# Altium schematic symbol library transistor.SchLib: 15 symbols
Pins are listed as number, name and electrical type; pins without a type are passive.

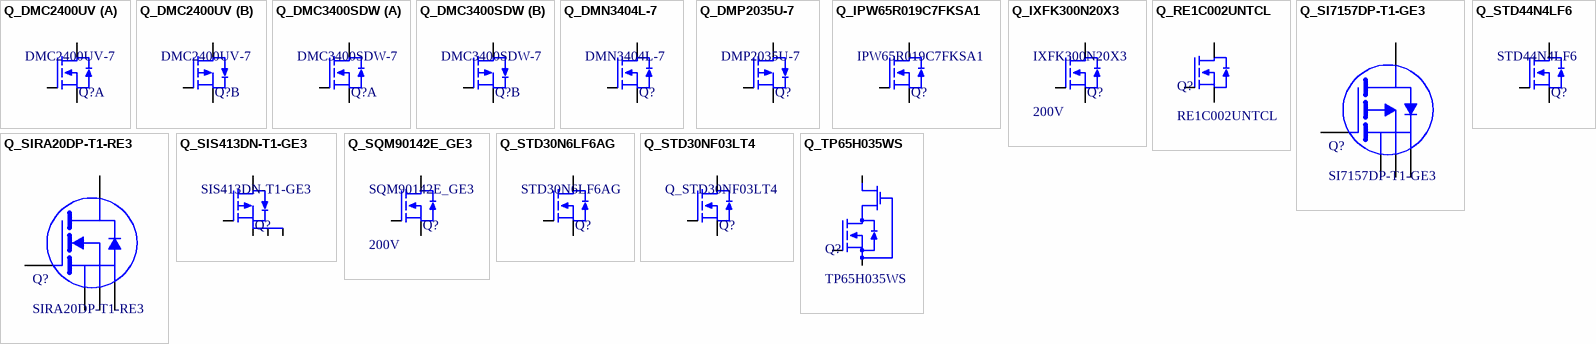
[diagram p0: symbols Q_DMC2400UV to Q_TP65H035WS]

## Q_DMC2400UV
designator Q?, comment DMC2400UV-7
Mosfet Array N and P-Channel 20V 1.03A, 700mA 450mW Surface Mount SOT-563; Manufacturer: Diodes Inc; Rds On Max: 480mR; Input Capacitance: 37.1pF; ComponentLink1URL: http://www.st.com/web/en/resource/technical/document/datasheet/CD00001894.pdf; ComponentLink1Description: http://www.st.com/web/en/resource/technical/document/datasheet/CD00001894.pdf; Min Operating Temperature: -55°C; Drain to Source Voltage (Vdss): 20V; Max Operating Temperature: 150°C; FET Type: N and P-Channel; Continuous Drain Current (ID): 1.03A, 700mA; Manufacturer Part Number: DMC2400UV-7; Max Power Dissipation: 450mW; Supplier 1: Digi-Key; Supplier 2: Mouser; Supplier Part Number 1: DMC2400UV-7DICT-ND; Supplier Part Number 2: 621-DMC2400UV-7
footprint SOT563 (Footprint not found)
part A pins: 1 SOURCE, 2 GATE, 6 DRAIN
part B pins: 3 DRAIN, 4 SOURCE, 5 GATE

## Q_DMC3400SDW
designator Q?, comment DMC3400SDW-7
Mosfet Array N and P-Channel 30V 650mA, 450mA 310mW Surface Mount SOT-363; Manufacturer: Diodes; Rds On Max: 400mR; Input Capacitance: 55pF; ComponentLink1URL: http://www.st.com/web/en/resource/technical/document/datasheet/CD00001894.pdf; ComponentLink1Description: http://www.st.com/web/en/resource/technical/document/datasheet/CD00001894.pdf; Supplier 1: Digi-Key; Min Operating Temperature: -55°C; Drain to Source Voltage (Vdss): 30V; Max Operating Temperature: 150°C; FET Type: N and P-Channel; Continuous Drain Current (ID): 450mA; Manufacturer Part Number: DMC3400SDW-7; Max Power Dissipation: 310mW; Supplier Part Number 1: DMC3400SDW-7DIDKR-ND
footprint SOT23-6 (SOT23, 0.95mm pitch, 6 pins)
part A pins: 1 SOURCE, 2 GATE, 3 DRAIN
part B pins: 4 SOURCE, 5 GATE, 6 DRAIN

## Q_DMN3404L-7
designator Q?, comment DMN3404L-7
N-Channel 30V 5.8A (Ta) 720mW (Ta) Surface Mount SOT-23-3; Manufacturer: Diodes; Nominal Vgs: 1.5V; Fall Time: 6.18ns; Turn-Off Delay Time: 13.92ns; Element Configuration: Single; Max Power Dissipation: 1.4W; Turn-On Delay Time: 3.41ns; Gate to Source Voltage (Vgs): 20V; Drain to Source Resistance: 82mR; Input Capacitance: 386pF; On-State Resistance: 28mR; ComponentLink1URL: http://www.st.com/web/en/resource/technical/document/datasheet/CD00001894.pdf; ComponentLink1Description: http://www.st.com/web/en/resource/technical/document/datasheet/CD00001894.pdf; Supplier 1: Digi-Key; Supplier Part Number 1: DMN3404LDICT-ND; Drain to Source Breakdown Voltage: 30V; Max Operating Temperature: 150°C; Drain to Source Voltage (Vdss): 30V; Continuous Drain Current (ID): 5.8A; Rise Time: 6.18ns; Manufacturer Part Number: DMN3404L-7; Case/Package: SOT-23; Min Operating Temperature: -55°C; Power Dissipation: 1.4W; Threshold Voltage: 1.5V; Rds On Max: 28mR
footprint SOT23-3 (SOT23, 3-Leads, Body 3.0x2.7mm (max), Pitch 0.95mm, IPC Medium Density)
pins: 1 GATE, 2 SOURCE, 3 DRAIN

## Q_DMP2035U-7
designator Q?, comment DMP2035U-7
P-Channel 20V 3.6A (Ta) 810mW (Ta) Surface Mount SOT-23-3; Manufacturer: Diodes; Gate to Source Voltage (Vgs): 8V; Input Capacitance: 1.61nF; Turn-On Delay Time: 16.8ns; Rds On Max: 35mR; Fall Time: 42.4ns; Turn-Off Delay Time: 94.1ns; On-State Resistance: 62mR; Drain to Source Breakdown Voltage: -20V; Rise Time: 12.4ns; Drain to Source Resistance: 23mR; ComponentLink1URL: http://www.st.com/web/en/resource/technical/document/datasheet/CD00001894.pdf; ComponentLink1Description: http://www.st.com/web/en/resource/technical/document/datasheet/CD00001894.pdf; Supplier 1: Digi-Key; Continuous Drain Current (ID): 3.6A; Drain to Source Voltage (Vdss): 20V; Power Dissipation: 810mW; Manufacturer Part Number: DMP2035U-7; Max Power Dissipation: 810mW; Max Operating Temperature: 150°C; Min Operating Temperature: -55°C; Supplier Part Number 1: DMP2035U-7DIDKR-ND
footprint SOT23-3 (SOT23, 3-Leads, Body 3.0x2.7mm (max), Pitch 0.95mm, IPC Medium Density)
pins: 1 GATE, 2 SOURCE, 3 DRAIN

## Q_IPW65R019C7FKSA1
designator Q?, comment IPW65R019C7FKSA1
N-Channel 650V 75A (Tc) 446W (Tc) Through Hole PG-TO247-3; Manufacturer: Infineon; Number of Elements: 1; Input Capacitance: 9.9nF; Rise Time: 27ns; Fall Time: 5ns; Turn-On Delay Time: 30ns; Gate to Source Voltage (Vgs): 20V; Rds On Max: 19mR; Turn-Off Delay Time: 106ns; ComponentLink1URL: http://www.st.com/web/en/resource/technical/document/datasheet/CD00001894.pdf; ComponentLink1Description: http://www.st.com/web/en/resource/technical/document/datasheet/CD00001894.pdf; Supplier 1: Digi-Key; Supplier Part Number 1: IPW65R019C7FKSA1-ND; Lead Free: Lead Free; Drain to Source Voltage (Vdss): 650V; Max Dual Supply Voltage: 650V; Packaging: Rail/Tube; Power Dissipation: 446W; Max Power Dissipation: 446W; Max Operating Temperature: 150°C; Continuous Drain Current (ID): 75A; Min Operating Temperature: -55°C; Mount: Through Hole; Case/Package: TO-247; Manufacturer Part Number: IPW65R019C7FKSA1
footprint TO247-3 (3 lead TO-247 package, vertical)
footprint TO247_MOSFET_or_Diode (3 lead TO-247 package, vertical, with option to install rectifier diode instead of MOSFET)
pins: 1 GATE, 2 DRAIN, 3 SOURCE

## Q_IXFK300N20X3
designator Q?, comment IXFK300N20X3  Drain to Source Voltage (Vdss): 200V
N-Channel 200V 300A (Tc) 1250W (Tc) Through Hole TO-264; Manufacturer: IXYS; Drive Voltage (Max Rds On, Min Rds On): 10V; Rds On (Max) @ Id, Vgs: 4 mOhm @ 150A, 10V; Vgs(th) (Max) @ Id: 4.5V @ 8mA; Gate Charge (Qg) (Max) @ Vgs: 375nC @ 10V; Input Capacitance (Ciss) (Max) @ Vds: 23800pF @ 25V; Vgs (Max): ±20V; ComponentLink1URL: http://www.st.com/web/en/resource/technical/document/datasheet/CD00001894.pdf; ComponentLink1Description: http://www.st.com/web/en/resource/technical/document/datasheet/CD00001894.pdf; Supplier 1: Digi-Key; Supplier Part Number 1: IXFK300N20X3-ND; Manufacturer Part Number: IXFK300N20X3; Current - Continuous Drain (Id) @ 25°C: 300A (Tc); Power Dissipation (Max): 1250W (Tc); Operating Temperature: -55°C ~ 150°C (TJ)
footprint TO247-3 (3 lead TO-247 package, vertical)
pins: 1 GATE, 2 DRAIN, 3 SOURCE

## Q_RE1C002UNTCL
designator Q?, comment RE1C002UNTCL
N-Channel 20V 200mA (Ta) 150mW (Ta) Surface Mount EMT3F (SOT-416FL); Manufacturer: Rohm; Input Capacitance: 25pF; Rds On Max: 1.2R; Supplier 1: Digi-Key; Supplier 2: Mouser; Supplier Part Number 1: RE1C002UNTCLCT-ND; Supplier Part Number 2: 755-RE1C002UNTCL; Continuous Drain Current (ID): 200mA; Drain to Source Voltage (Vdss): 20V; Manufacturer Part Number: RE1C002UNTCL; Max Power Dissipation: 150mW
footprint EMT3F (3 lead transistor, 0.5mm pitch)
pins: 1 GATE, 2 SOURCE, 3 DRAIN

## Q_SI7157DP-T1-GE3
designator Q?, comment SI7157DP-T1-GE3
P-Channel 20V 60A (Tc) 6.25W (Ta), 104W (Tc) Surface Mount PowerPAK® SO-8; Turn-On Delay Time: 20ns; Gate to Source Voltage (Vgs): 12V; Number of Elements: 1; Rise Time: 14ns; Turn-Off Delay Time: 220ns; Drain to Source Resistance: 1.25mR; Drain to Source Breakdown Voltage: -20V; Threshold Voltage: -1.4V; Element Configuration: Single; Rds On Max: 1.6mR; Input Capacitance: 22nF; Fall Time: 55ns; Continuous Drain Current (ID): -60A; Supplier 1: Digi-Key; Supplier Part Number 1: SI7157DP-T1-GE3CT-ND; Number of Pins: 8; Manufacturer Part Number: SI7157DP-T1-GE3; Number of Channels: 1; Max Power Dissipation: 104W; Drain to Source Voltage (Vdss): 20V; Max Operating Temperature: 150°C; Power Dissipation: 6.25W
footprint PowerPAK-SO-8 (PowerPAK Single Mosfet)
pins: 1 SOURCE, 2 SOURCE, 3 SOURCE, 4 GATE, 5 DRAIN

## Q_SIRA20DP-T1-RE3
designator Q?, comment SIRA20DP-T1-RE3
N-Channel 25V 81.7A (Ta), 100A (Tc) 6.25W (Ta), 104W (Tc) Surface Mount PowerPAK® SO-8; Manufacturer: Vishay; Drive Voltage (Max Rds On, Min Rds On): 4.5V, 10V; Rds On (Max) @ Id, Vgs: 0.58mOhm @ 20A, 10V; Vgs(th) (Max) @ Id: 2.1V @ 250µA; Vgs (Max): +16V, -12V; Input Capacitance (Ciss) (Max) @ Vds: 10850pF @ 10V; Gate Charge (Qg) (Max) @ Vgs: 200nC @ 10V; Supplier 1: Digi-Key; Supplier 2: Mouser; Supplier Part Number 1: SIRA20DP-T1-RE3CT-ND; Supplier Part Number 2: 78-SIRA20DP-T1-RE3; Manufacturer Part Number: SIRA20DP-T1-RE3; Drain to Source Voltage (Vdss): 25V; Current - Continuous Drain (Id) @ 25°C: 81.7A (Ta), 100A (Tc); Power Dissipation (Max): 6.25W (Ta), 104W (Tc); Operating Temperature: -55°C ~ 150°C (TJ)
footprint PowerPAK-SO-8 (PowerPAK Single Mosfet)
pins: 1 SOURCE, 2 SOURCE, 3 SOURCE, 4 GATE, 5 DRAIN

## Q_SIS413DN-T1-GE3
designator Q?, comment SIS413DN-T1-GE3
P-Channel 30V 18A (Tc) 3.7W (Ta), 52W (Tc) Surface Mount PowerPAK® 1212-8; Manufacturer: Vishay Siliconix; Continuous Drain Current (ID): -18A; Drain to Source Breakdown Voltage: -30V; Drain to Source Resistance: 9.4mR; Fall Time: 8ns; Gate to Source Voltage (Vgs): 20V; Input Capacitance: 4.28nF; Rise Time: 11ns; Threshold Voltage: -2.5V; Turn-Off Delay Time: 45ns; ComponentLink1URL: http://www.st.com/web/en/resource/technical/document/datasheet/CD00001894.pdf; ComponentLink1Description: http://www.st.com/web/en/resource/technical/document/datasheet/CD00001894.pdf; Manufacturer Part Number: SIS413DN-T1-GE3; Supplier 1: Digi-Key; Supplier 2: Mouser; Supplier Part Number 1: SIS413DN-T1-GE3CT-ND; Supplier Part Number 2: 78-SIS413DN-T1-GE3; Drain to Source Voltage (Vdss): -30V; Max Operating Temperature: 150°C; Max Power Dissipation: 52W; Min Operating Temperature: -55°C
footprint PowerPAK-1212-8 (PowerPAK Single Mosfet)
pins: 1 SOURCE, 2 SOURCE, 3 SOURCE, 4 GATE, 5 DRAIN

## Q_SQM90142E_GE3
designator Q?, comment SQM90142E_GE3  Drain to Source Voltage (Vdss): 200V
N-Channel 200V 95A (Tc) 375W (Tc) Surface Mount TO-263 (D²Pak); Manufacturer: Vishay; Drive Voltage: 10V; Rds On (Max) @ Id, Vgs: 15.3 mOhm @ 20A, 10V; Vgs(th) (Max) @ Id: 3.5V @ 250µA; Gate Charge (Qg) (Max) @ Vgs: 85nC @ 10V; Vgs (Max): ±20V; Input Capacitance (Ciss) (Max) @ Vds: 4200pF @ 25V; ComponentLink1URL: http://www.st.com/web/en/resource/technical/document/datasheet/CD00001894.pdf; ComponentLink1Description: http://www.st.com/web/en/resource/technical/document/datasheet/CD00001894.pdf; Supplier 1: Digi-Key; Supplier Part Number 1: SQM90142E_GE3DKR-ND; Manufacturer Part Number: SQM90142E_GE3; Current - Continuous Drain: 95A; Power Dissipation (Max): 375W (Tc); Operating Temperature: -55°C ~ 175°C (TJ)
footprint D2PAK (D2PAK, 3-pin TO263)
pins: 1 DRAIN, 2 SOURCE, 3 GATE

## Q_STD30N6LF6AG
designator Q?, comment STD30N6LF6AG
MOSFET N-CH 60V 24A DPAK; Manufacturer: STMicroelectronics; FET Type: MOSFET N-Channel, Metal Oxide; FET Feature: Logic Level Gate; Drain to Source Voltage (Vdss): 30V; Current - Continuous Drain (Id) @ 25°C: 30A (Tc); Rds On (Max) @ Id, Vgs: 25 mOhm @ 12A, 10V; Vgs(th) (Max) @ Id: 2.5V @ 250µA; Gate Charge (Qg) @ Vgs: 18nC @ 5V; Input Capacitance (Ciss) @ Vds: 1320pF @ 25V; Power - Max: 40W; Manufacturer Part Number: STD30N6LF6AG; RoHS: RoHS Compliant; Category: Discrete Semiconductor Products; Packaging: Tape & Reel (TR); Mounting Type: Surface Mount; Package / Case: TO-252-3, DPak (2 Leads + Tab), SC-63; Supplier Device Package: D-Pak; ComponentLink1URL: http://www.st.com/web/en/resource/technical/document/datasheet/CD00001894.pdf; ComponentLink1Description: http://www.st.com/web/en/resource/technical/document/datasheet/CD00001894.pdf; Supplier 1: Digi-Key; Supplier Part Number 1: 497-16302-1-ND
footprint DPAK
pins: 1 DRAIN, 2 SOURCE, 3 GATE

## Q_STD30NF03LT4
designator Q?
MOSFET N-CH 30V 30A DPAK; Manufacturer: STMicroelectronics; FET Type: MOSFET N-Channel, Metal Oxide; FET Feature: Logic Level Gate; Current - Continuous Drain (Id) @ 25°C: 30A (Tc); Rds On (Max) @ Id, Vgs: 25 mOhm @ 15A, 10V; Vgs(th) (Max) @ Id: 2.5V @ 250µA; Gate Charge (Qg) @ Vgs: 18nC @ 5V; Input Capacitance (Ciss) @ Vds: 830pF @ 25V; Power - Max: 50W; Manufacturer Part Number: STD30NF03LT4; RoHS: RoHS Compliant; Category: Discrete Semiconductor Products; Packaging: Tape & Reel (TR); Drain to Source Voltage (Vdss): 30V; Mounting Type: Surface Mount; Package / Case: TO-252-3, DPak (2 Leads + Tab), SC-63; Supplier Device Package: D-Pak; ComponentLink1URL: http://www.st.com/web/en/resource/technical/document/datasheet/CD00001894.pdf; ComponentLink1Description: http://www.st.com/web/en/resource/technical/document/datasheet/CD00001894.pdf; Supplier 1: Digi-Key; Supplier Part Number 1: 497-3157-1-ND
footprint DPAK
pins: 1 DRAIN, 2 SOURCE, 3 GATE

## Q_STD44N4LF6
designator Q?, comment STD44N4LF6
MOSFET N-CH 40V 44A DPAK; Manufacturer: STMicroelectronics; FET Type: MOSFET N-Channel, Metal Oxide; FET Feature: Logic Level Gate; Drain to Source Voltage (Vdss): 30V; Current - Continuous Drain (Id) @ 25°C: 30A (Tc); Rds On (Max) @ Id, Vgs: 12.5 mOhm @ 20A, 10V; Vgs(th) (Max) @ Id: 2.5V @ 250µA; Gate Charge (Qg) @ Vgs: 22nC @ 10V; Input Capacitance (Ciss) @ Vds: 1190pF @ 25V; Power - Max: 50W; Manufacturer Part Number: STD44N4LF6; RoHS: RoHS Compliant; Category: Discrete Semiconductor Products; Mounting Type: Surface Mount; Package / Case: TO-252-3, DPak (2 Leads + Tab), SC-63; Supplier Device Package: D-Pak; ComponentLink1URL: http://www.st.com/web/en/resource/technical/document/datasheet/CD00001894.pdf; ComponentLink1Description: http://www.st.com/web/en/resource/technical/document/datasheet/CD00001894.pdf; Supplier 1: Digi-Key; Supplier Part Number 1: 497-11098-1-ND
footprint DPAK
pins: 1 DRAIN, 2 SOURCE, 3 GATE

## Q_TP65H035WS
designator Q?, comment TP65H035WS
650 V 46.5 CASCODE GaN FET; Manufacturer: Transphorm; Drain to Source Voltage (Vdss): 650V; Current - Continuous Drain: 46.5A; Rds On (Max) @ Id, Vgs: 41 mOhm @ 30A, 8V; Drive Voltage (Max Rds On, Min Rds On): 8V; Vgs(th) (Max) @ Id: 4.8V @ 700µA; Vgs (Max): ±20V; Gate Charge (Qg) (Max) @ Vgs: 36nC @ 8V; Input Capacitance (Ciss) (Max) @ Vds: 1500pF @ 400V; Power Dissipation (Max): 156W; Supplier 1: Digi-Key; Manufacturer Part Number: TP65H035WS; Supplier Part Number 1: TP65H035WS-ND; Operating Temperature: -55°C ~ 150°C (TJ)
footprint TO247-3 (3 lead TO-247 package, vertical)
pins: 1 GATE, 2 SOURCE, 3 DRAIN